# EAGLE library part LSM6DSOX_ISM330DHC_MICROBUILDER_LSM6DSOX (library TG-Watch02B-rev04)
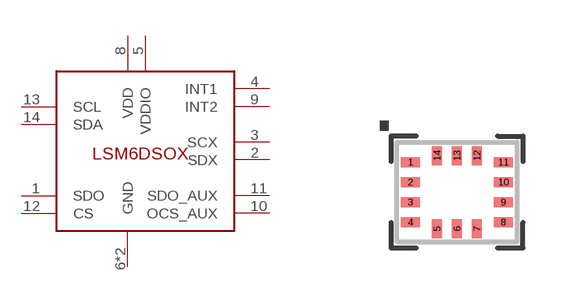
[diagram p8: symbol with the pads of LSM6DSOX_ISM330DHC_MICROBUILDER_LGA-14L; footprint LSM6DSOX_ISM330DHC_MICROBUILDER_LGA-14L]

Designator prefix -

## LSM6DSOX_ISM330DHC_MICROBUILDER_LSM6DSOX  [LSM6DSOX_ISM330DHC_MICROBUILDER_LGA-14L]
1  SDO
2  SDX
3  SCX
4  INT1
5  VDDIO  pwr
6  GND  pwr
7  GND  pwr
8  VDD  pwr
9  INT2
10  OCS_AUX
11  SDO_AUX
12  CS
13  SCL
14  SDA

## Footprint LSM6DSOX_ISM330DHC_MICROBUILDER_LGA-14L (pad centres in mm)
smd 0.475 x 0.25: 1 -1.163,0.75; 2 -1.163,0.25; 3 -1.163,-0.25; 4 -1.163,-0.75; 8 1.163,-0.75; 9 1.163,-0.25; 10 1.163,0.25; 11 1.163,0.75
smd 0.25 x 0.475: 5 -0.5,-0.912; 6 0,-0.912; 7 0.5,-0.912; 12 0.5,0.912; 13 0,0.912; 14 -0.5,0.912